# EAGLE library part RELAY-DPDT-1 (library spietz-library)
PB1169-ND
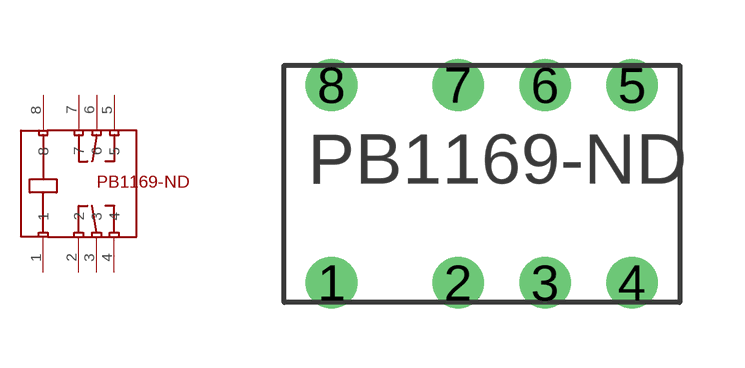
[diagram p0: symbol with the pads of RELAY-DPDT-1; footprint RELAY-DPDT-1]

Designator prefix -

## RELAY-DPDT-1  [RELAY-DPDT-1]
1  1
2  2
3  3
4  4
5  5
6  6
7  7
8  8

## Footprint RELAY-DPDT-1 (pad centres in mm)
PB1169-ND
drill 0.8: 1 -3.2,-2.5; 2 0,-2.5; 3 2.2,-2.5; 4 4.4,-2.5; 5 4.4,2.5; 6 2.2,2.5; 7 0,2.5; 8 -3.2,2.5